# Altium footprint library TAJC106M016RNJ.PCBLIB: 1 footprints
Each footprint in its own frame and in the unit in brackets; x right, y up, seen from the top. Pads: shape width x height; smd on the part's side, far side on the other; paste and mask are expansions set on the pad; w line width, h text height; cw(c..) or ccw(c..) is an arc to the next point about the centre after c.
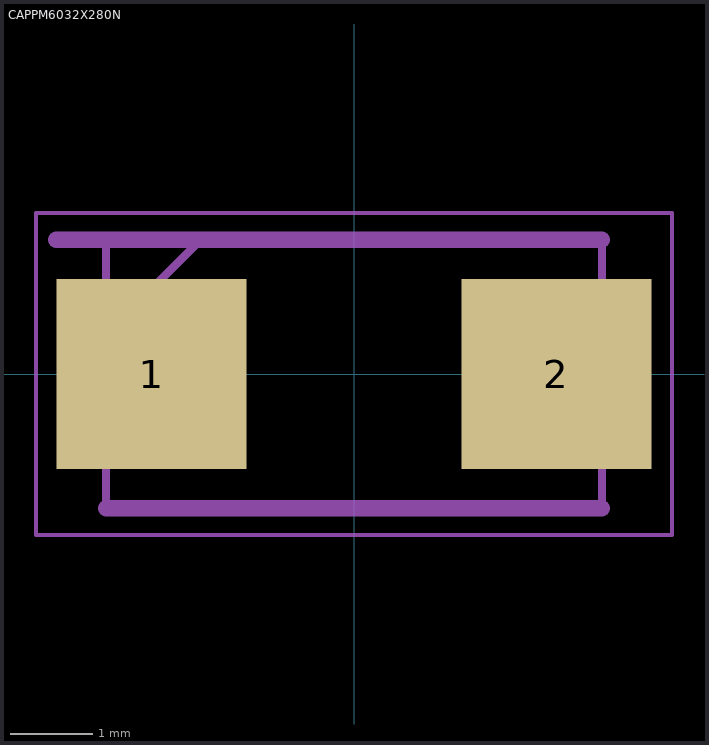
[diagram p0: the footprint, top view; thin cyan lines are the x and y axes]

## CAPPM6032X280N [mm]
pads (2):
  rect 2.3x2.3 smd: 1(-2.45,0) 2(2.45,0)
Mechanical 8:
  lines w0.05: -3.85,-1.95 3.85,-1.95 3.85,1.95 -3.85,1.95 -3.85,-1.95
  lines w0.1: -3,0.475 -1.85,1.625 ; -3,-1.625 3,-1.625 3,1.625 -3,1.625 -3,-1.625
Mechanical 22:
  lines w0.2: -3.6,1.625 3,1.625 ; -3,-1.625 3,-1.625